# EAGLE library part ATSAM4E16CA-AU (library mbed-HDK-MF-ATMEL)
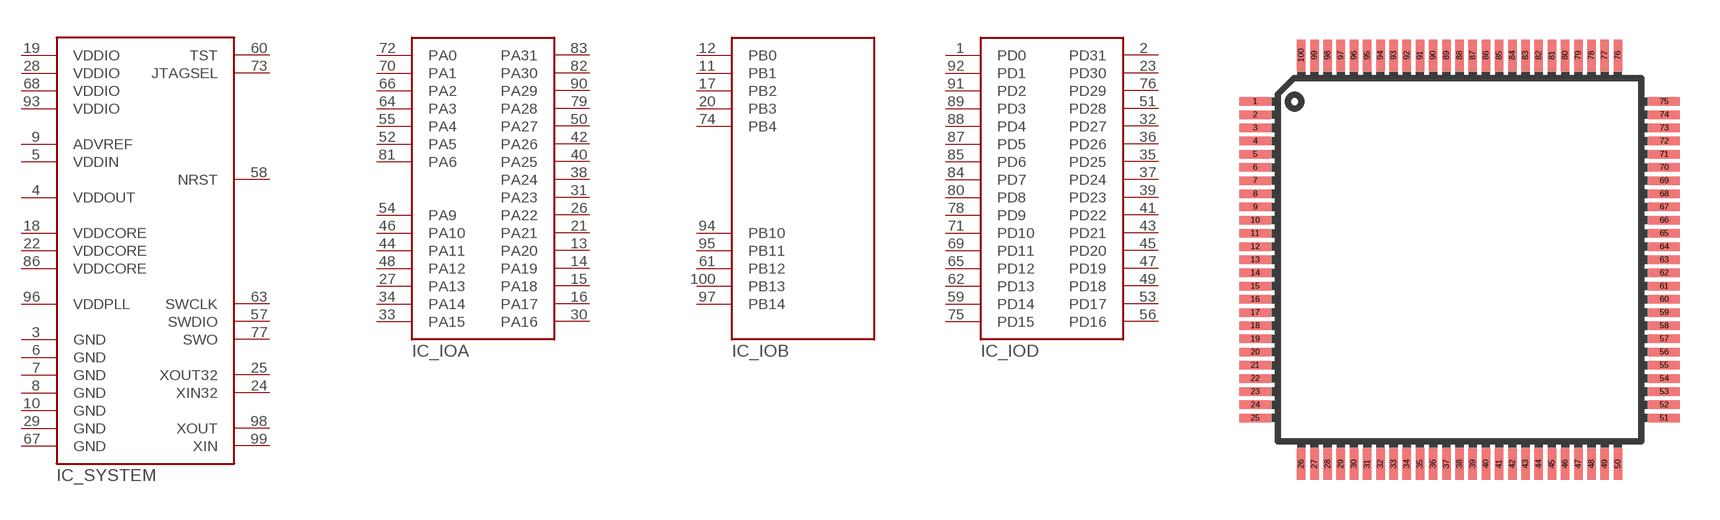
[diagram p3: symbol with the pads of LQFP100; footprint LQFP100]

Designator prefix IC; gates _SYSTEM=ATSAM4E16CA-AU-SYSTEM _IOA=ATSAM4E16CA-AU-IOA _IOB=ATSAM4E16CA-AU-IOB _IOD=ATSAM4E16CA-AU-IOD

## ATSAM4E16CA-AU  [LQFP100]
1  _IOD:PD0
2  _IOD:PD31
3  _SYSTEM:GND
4  _SYSTEM:VDDOUT
5  _SYSTEM:VDDIN
6  _SYSTEM:GND
7  _SYSTEM:GND
8  _SYSTEM:GND
9  _SYSTEM:ADVREF
10  _SYSTEM:GND
11  _IOB:PB1
12  _IOB:PB0
13  _IOA:PA20
14  _IOA:PA19
15  _IOA:PA18
16  _IOA:PA17
17  _IOB:PB2
18  _SYSTEM:VDDCORE
19  _SYSTEM:VDDIO
20  _IOB:PB3
21  _IOA:PA21
22  _SYSTEM:VDDCORE
23  _IOD:PD30
24  _SYSTEM:XIN32
25  _SYSTEM:XOUT32
26  _IOA:PA22
27  _IOA:PA13
28  _SYSTEM:VDDIO
29  _SYSTEM:GND
30  _IOA:PA16
31  _IOA:PA23
32  _IOD:PD27
33  _IOA:PA15
34  _IOA:PA14
35  _IOD:PD25
36  _IOD:PD26
37  _IOD:PD24
38  _IOA:PA24
39  _IOD:PD23
40  _IOA:PA25
41  _IOD:PD22
42  _IOA:PA26
43  _IOD:PD21
44  _IOA:PA11
45  _IOD:PD20
46  _IOA:PA10
47  _IOD:PD19
48  _IOA:PA12
49  _IOD:PD18
50  _IOA:PA27
51  _IOD:PD28
52  _IOA:PA5
53  _IOD:PD17
54  _IOA:PA9
55  _IOA:PA4
56  _IOD:PD16
57  _SYSTEM:SWDIO
58  _SYSTEM:NRST
59  _IOD:PD14
60  _SYSTEM:TST
61  _IOB:PB12
62  _IOD:PD13
63  _SYSTEM:SWCLK
64  _IOA:PA3
65  _IOD:PD12
66  _IOA:PA2
67  _SYSTEM:GND
68  _SYSTEM:VDDIO
69  _IOD:PD11
70  _IOA:PA1
71  _IOD:PD10
72  _IOA:PA0
73  _SYSTEM:JTAGSEL
74  _IOB:PB4
75  _IOD:PD15
76  _IOD:PD29
77  _SYSTEM:SWO
78  _IOD:PD9
79  _IOA:PA28
80  _IOD:PD8
81  _IOA:PA6
82  _IOA:PA30
83  _IOA:PA31
84  _IOD:PD7
85  _IOD:PD6
86  _SYSTEM:VDDCORE
87  _IOD:PD5
88  _IOD:PD4
89  _IOD:PD3
90  _IOA:PA29
91  _IOD:PD2
92  _IOD:PD1
93  _SYSTEM:VDDIO
94  _IOB:PB10
95  _IOB:PB11
96  _SYSTEM:VDDPLL
97  _IOB:PB14
98  _SYSTEM:XOUT
99  _SYSTEM:XIN
100  _IOB:PB13

## Footprint LQFP100 (pad centres in mm)
smd 1.2 x 0.32: 1 -7.75,6; 2 -7.75,5.5; 3 -7.75,5; 4 -7.75,4.5; 5 -7.75,4; 6 -7.75,3.5; 7 -7.75,3; 8 -7.75,2.5; 9 -7.75,2; 10 -7.75,1.5; 11 -7.75,1; 12 -7.75,0.5; 13 -7.75,0; 14 -7.75,-0.5; 15 -7.75,-1; 16 -7.75,-1.5; 17 -7.75,-2; 18 -7.75,-2.5; 19 -7.75,-3; 20 -7.75,-3.5; 21 -7.75,-4; 22 -7.75,-4.5; 23 -7.75,-5; 24 -7.75,-5.5; 25 -7.75,-6; 51 7.75,-6; 52 7.75,-5.5; 53 7.75,-5; 54 7.75,-4.5; 55 7.75,-4; 56 7.75,-3.5; 57 7.75,-3; 58 7.75,-2.5; 59 7.75,-2; 60 7.75,-1.5; 61 7.75,-1; 62 7.75,-0.5; 63 7.75,0; 64 7.75,0.5; 65 7.75,1; 66 7.75,1.5; 67 7.75,2; 68 7.75,2.5; 69 7.75,3; 70 7.75,3.5; 71 7.75,4; 72 7.75,4.5; 73 7.75,5; 74 7.75,5.5; 75 7.75,6
smd 0.32 x 1.2: 26 -6,-7.75; 27 -5.5,-7.75; 28 -5,-7.75; 29 -4.5,-7.75; 30 -4,-7.75; 31 -3.5,-7.75; 32 -3,-7.75; 33 -2.5,-7.75; 34 -2,-7.75; 35 -1.5,-7.75; 36 -1,-7.75; 37 -0.5,-7.75; 38 0,-7.75; 39 0.5,-7.75; 40 1,-7.75; 41 1.5,-7.75; 42 2,-7.75; 43 2.5,-7.75; 44 3,-7.75; 45 3.5,-7.75; 46 4,-7.75; 47 4.5,-7.75; 48 5,-7.75; 49 5.5,-7.75; 50 6,-7.75; 76 6,7.75; 77 5.5,7.75; 78 5,7.75; 79 4.5,7.75; 80 4,7.75; 81 3.5,7.75; 82 3,7.75; 83 2.5,7.75; 84 2,7.75; 85 1.5,7.75; 86 1,7.75; 87 0.5,7.75; 88 0,7.75; 89 -0.5,7.75; 90 -1,7.75; 91 -1.5,7.75; 92 -2,7.75; 93 -2.5,7.75; 94 -3,7.75; 95 -3.5,7.75; 96 -4,7.75; 97 -4.5,7.75; 98 -5,7.75; 99 -5.5,7.75; 100 -6,7.75